# Altium schematic symbol library CONN 5X2 Vert Ribbon.SchLib: 1 symbol
Pins are listed as number, name and electrical type; pins without a type are passive.

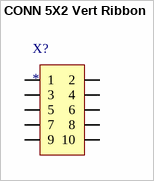
[diagram p0: symbol CONN 5X2 Vert Ribbon]

## CONN 5X2 Vert Ribbon
designator X?
10 Pin Ribbon Connector
pins: 1, 2, 3, 4, 5, 6, 7, 8, 9, 10